# EAGLE library part OPA4140_D_14 (library TIAnalog)
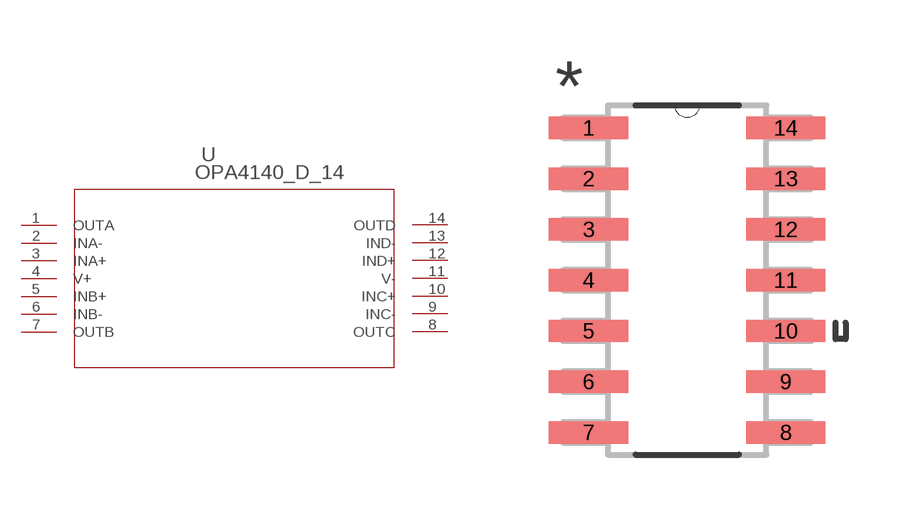
[diagram p4: symbol with the pads of D14; footprint D14]

Designator prefix U

## OPA4140_D_14 (DATASHEETURL: http://www.ti.com/lit/gpn/OPA4140; DESCRIPTION: 11MHz, Single Supply, Low Noise, Precision, Rail-to-Rail Output, JFET Amplifier; FAMILY_NAME: LOW INPUT BIAS CURRENT/FET INPUT; GENERIC_PART_NUMBER: OPA4140; INDUSTRY_STD_PKG_TYPE: SOIC; MANUFACTURER: Texas Instruments; MANUFACTURER_PART_NUMBER: opa4140_d_14; PACKAGE_DESIGNATOR: D; PIN_COUNT: 14; VENDOR: Texas Instruments)  [D14]
1  OUTA  out
2  INA-  in
3  INA+  in
4  V+  pwr
5  INB+  in
6  INB-  in
7  OUTB  out
8  OUTC  out
9  INC-  in
10  INC+  in
11  V-  pwr
12  IND+  in
13  IND-  in
14  OUTD  out

## Footprint D14 (pad centres in mm)
smd 1.981 x 0.559: 1 -2.464,3.81; 2 -2.464,2.54; 3 -2.464,1.27; 4 -2.464,0; 5 -2.464,-1.27; 6 -2.464,-2.54; 7 -2.464,-3.81; 8 2.464,-3.81; 9 2.464,-2.54; 10 2.464,-1.27; 11 2.464,0; 12 2.464,1.27; 13 2.464,2.54; 14 2.464,3.81